# EAGLE library part MI_LITE (library micro_edge)
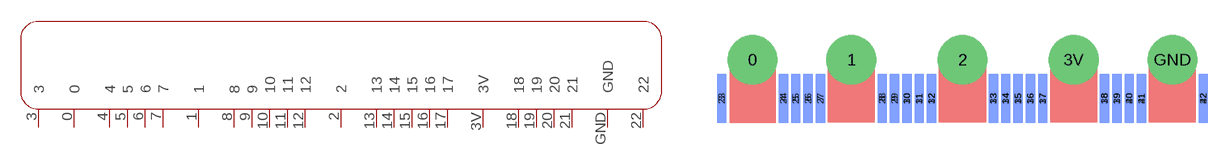
[diagram p0: symbol with the pads of EDGE_FINGER; footprint EDGE_FINGER]

Designator prefix MICRO

## MI_LITE  [EDGE_FINGER]
0  0
1  1
2  2
3  3
3V  3V
4  4
5  5
6  6
7  7
8  8
9  9
10  10
11  11
12  12
13  13
14  14
15  15
16  16
17  17
18  18
19  19
20  20
21  21
22  22
GND  GND

## Footprint EDGE_FINGER (pad centres in mm)
drill 4 pad 5.15: 0 -21.675,2.5; 1 -11.475,2.5; 2 0,2.5; 3V 11.475,2.5; GND 21.675,2.5
smd 1 x 5: 3 -24.863,-1.5; 4 -18.488,-1.5; 5 -17.212,-1.5; 6 -15.938,-1.5; 7 -14.662,-1.5; 8 -8.287,-1.5; 9 -7.013,-1.5; 10 -5.737,-1.5; 11 -4.463,-1.5; 12 -3.188,-1.5; 13 3.188,-1.5; 14 4.463,-1.5; 15 5.737,-1.5; 16 7.013,-1.5; 17 8.287,-1.5; 18 14.662,-1.5; 19 15.938,-1.5; 20 17.212,-1.5; 21 18.488,-1.5; 22 24.863,-1.5
smd 1 x 5 bottom: 23 -24.863,-1.5; 24 -18.488,-1.5; 25 -17.212,-1.5; 26 -15.938,-1.5; 27 -14.662,-1.5; 28 -8.287,-1.5; 29 -7.013,-1.5; 30 -5.737,-1.5; 31 -4.463,-1.5; 32 -3.188,-1.5; 33 3.188,-1.5; 34 4.463,-1.5; 35 5.737,-1.5; 36 7.013,-1.5; 37 8.287,-1.5; 38 14.662,-1.5; 39 15.938,-1.5; 40 17.212,-1.5; 41 18.488,-1.5; 42 24.863,-1.5